# Altium footprint library DFN230X100X55X10N.PcbLib: 1 footprints
Each footprint in its own frame and in the unit in brackets; x right, y up, seen from the top. Pads: shape width x height; smd on the part's side, far side on the other; paste and mask are expansions set on the pad; w line width, h text height; cw(c..) or ccw(c..) is an arc to the next point about the centre after c.
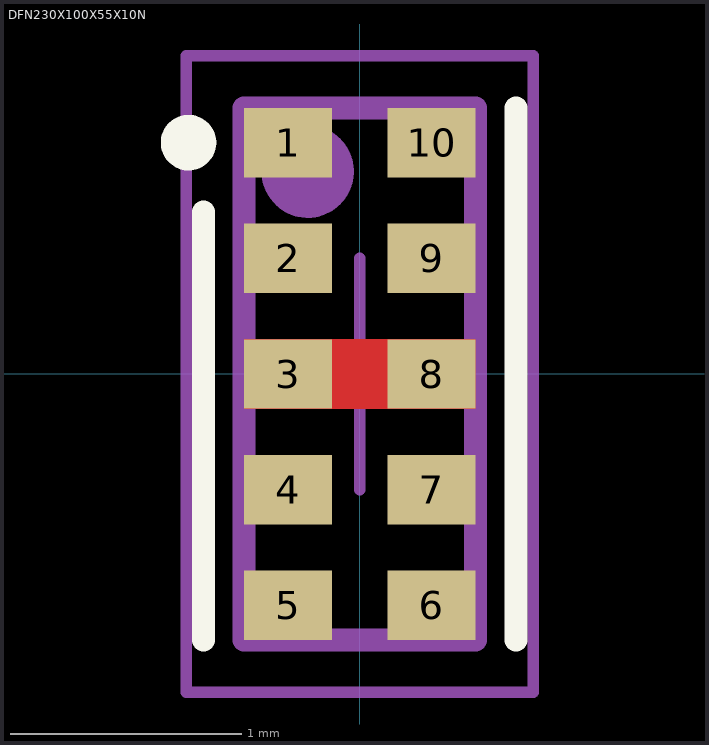
[diagram p0: the footprint, top view; thin cyan lines are the x and y axes]

## DFN230X100X55X10N [mm]
height 0.55
pads (10):
  rect 0.38x0.3 smd: 1(-0.31,1) 2(-0.31,0.5) 3(-0.31,0) 4(-0.31,-0.5) 5(-0.31,-1) 6(0.31,-1) 7(0.31,-0.5) 8(0.31,0) 9(0.31,0.5) 10(0.31,1)
Top Layer:
  region: -0.5,0.15 -0.5,-0.15 0.5,-0.15 0.5,0.15
Top Overlay:
  circle w0.12: c-0.74,1 r0.06
  lines w0.1: -0.675,-1.15 -0.675,0.7 ; 0.675,1.15 0.675,-1.15
Top Assembly:
  circle w0.2: c-0.225,0.875 r0.1
  lines w0.1: -0.5,-1.15 0.5,-1.15 0.5,1.15 -0.5,1.15 -0.5,-1.15
Top Courtyard:
  lines w0.05: -0.75,-1.375 -0.75,1.375 0.75,1.375 0.75,-1.375 -0.75,-1.375
Top Designator:
  text ".Designator" at 1,1 h0.7
Top Component Center:
  lines w0.05: -0.5,0 0.5,0 ; 0,-0.5 0,0.5
3D body: height 0.55, standoff 0, extent -0.5,-1.15 0.5,1.15
3D body: height 0.56, standoff 0.54, extent -0.424,0.675 -0.024,1.075